# Altium schematic symbol library C70005.SCHLIB: 16 symbols
Pins are listed as number, name and electrical type; pins without a type are passive.

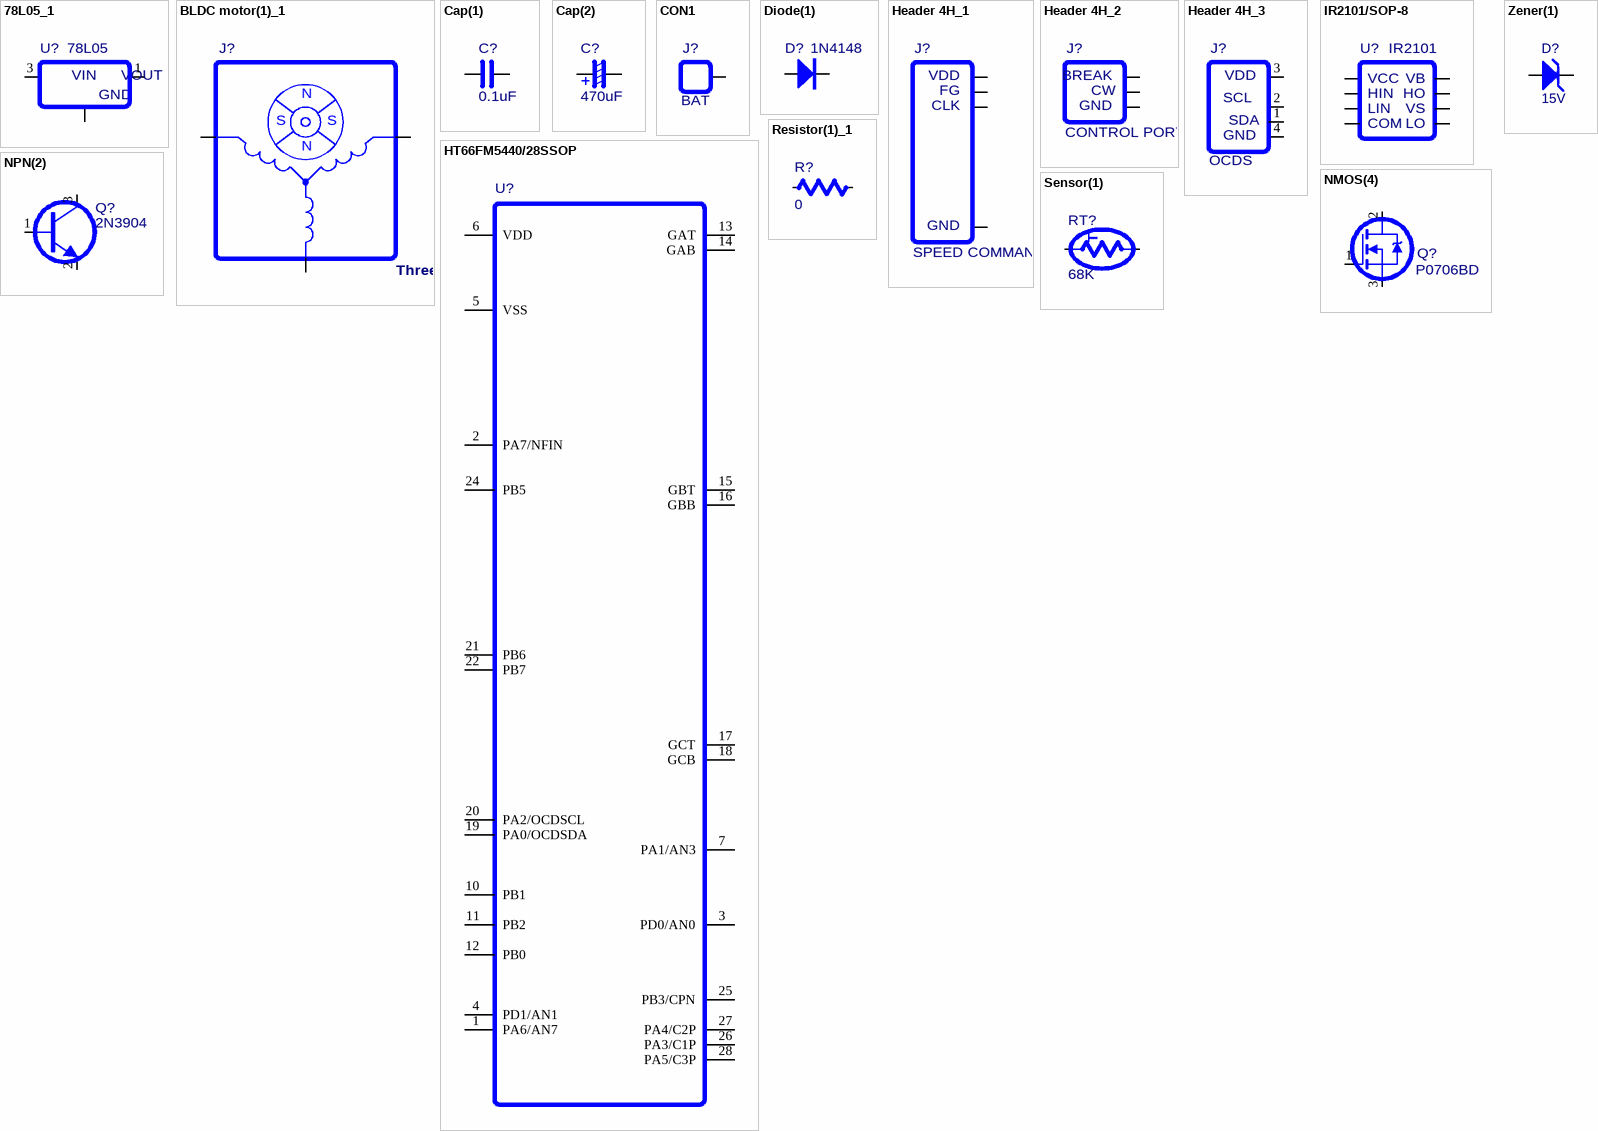
[diagram p0: symbols 78L05_1 to Zener(1)]

## 78L05_1
designator U?, comment 78L05
footprint SOT-89 (Footprint not found)
pins: 1 Vout, 2 GND, 3 Vin
text: VIN; VOUT

## BLDC motor(1)_1
designator J?, comment BLDC motor(1)  (value not drawn)
pins: 1, 2, 3
text: N; S; Three-phase   BLDC motor

## Cap(1)
designator C?, comment 0.1uF
Capacitor; Published: 8-Jun-2000; LatestRevisionDate: 17-Jul-2002; LatestRevisionNote: Re-released for DXP Platform.; PackageReference: RAD-0.3; Publisher: Altium Limited; Value: 0.1uF; Size: Small; Update: 2016/12/29
pins: 1, 2

## Cap(2)
designator C?, comment 470uF
Capacitor; Value: 470uF; Update: 2016/12/29; Size: Small
footprint ECAP 35V47UF
pins: 1, 2

## CON1
designator J?, comment BAT
CON1; LatestRevisionDate: 17-Jul-2002; LatestRevisionNote: Re-released for DXP Platform.; Publisher: Altium Limited
footprint HDR1X4H (Connector; Header; 4 Position; Right Angle)
signal-integrity model Connector
pins: 1

## Diode(1)
designator D?, comment 1N4148
Diode; Published: 8-Jun-2000; LatestRevisionDate: 17-Jul-2002; LatestRevisionNote: Re-released for DXP Platform.; PackageVersion: Sep-1996; PackageReference: SMC; Publisher: Altium Limited; PackageDescription: DO-214-AB/SMC; 2 C-Bend Leads; Body 7.9 x 5.9 mm, inc. leads (LxW); Code_JEDEC: DO-214-AB; Value: 1N4148; Update: 2016/12/29; Size: Small
footprint SMC (DO-214-AB/SMC; 2 C-Bend Leads; Body 7.9 x 5.9 mm, inc. leads (LxW))
simulation model DIODE (Diode)
signal-integrity model Diode
pins: 1 A, 2 K

## Header 4H_1
designator J?, comment SPEED COMMAND
Header, 4-Pin, Right Angle; LatestRevisionDate: 17-Jul-2002; LatestRevisionNote: Re-released for DXP Platform.; Publisher: Altium Limited
footprint HDR1X4H (Connector; Header; 4 Position; Right Angle)
signal-integrity model Connector
pins: 1, 2 CLK/VSP, 3 FG, 4 GND
text: VDD; CLK

## Header 4H_2
designator J?, comment CONTROL PORT
Header, 4-Pin, Right Angle; LatestRevisionDate: 17-Jul-2002; LatestRevisionNote: Re-released for DXP Platform.; Publisher: Altium Limited
footprint HDR1X4H (Connector; Header; 4 Position; Right Angle)
signal-integrity model Connector
pins: 1, 3 FG, 4 GND
text: BREAK; CW

## Header 4H_3
designator J?, comment OCDS
Header, 4-Pin, Right Angle; LatestRevisionDate: 17-Jul-2002; LatestRevisionNote: Re-released for DXP Platform.; Publisher: Altium Limited
footprint SIP4 (Footprint not found)
pins: 1 FG, 2 SCL, 3 1, 4 GND
text: VDD; SDA

## HT66FM5440/28SSOP
designator U?  (value not drawn)
footprint SSOP28 (Footprint not found)
pins: 1 PA6/AN7, 2 PA7/NFIN, 3 PD0/AN0, 4 PD1/AN1, 5 VSS, 6 VDD, 7 PA1/AN3, 10 PB1, 11 PB2, 12 PB0, 13 GAT, 14 GAB, 15 GBT, 16 GBB, 17 GCT, 18 GCB, 19 PA0/OCDSDA, 20 PA2/OCDSCL, 21 PB6, 22 PB7, 24 PB5, 25 PB3/CPN, 26 PA3/C1P, 27 PA4/C2P, 28 PA5/C3P

## IR2101/SOP-8
designator U?, comment IR2101
footprint SOP-8
footprint SOP-8
pins: 1 VCC, 2 HIN, 3 LIN, 4 COM, 5 LO, 6 VS, 7 HO, 8 VB

## NMOS(4)
designator Q?, comment P0706BD
N-Channel Power MOSFET; Note: Pin 2 is electrically connected to pin 4.; Published: 8-Jun-2000; LatestRevisionDate: 17-Jul-2002; LatestRevisionNote: Re-released for DXP Platform.; DatasheetVersion: PD-9.814; PackageVersion: Feb-1997; PackageReference: TO-220AB; Publisher: Altium Limited; PackageDescription: TO, Thru-Hole, Vertical, Heatsink Mounted; 3 In-Line Leads; Pitch 2.54 mm; ComponentLink1Description: Manufacturer Link; ComponentLink1URL: http://www.irf.com/
footprint TO252 (Footprint not found)
pins: 1 G, 2 D, 3 60

## NPN(2)
designator Q?, comment 2N3904
NPN Bipolar Transistor; Published: 8-Jun-2000; LatestRevisionDate: 17-Jul-2002; LatestRevisionNote: Re-released for DXP Platform.; PackageReference: TO-226-AA; Publisher: Altium Limited; PackageDescription: TO, Flat Index; 3 In-Line, Axial Leads; Body Dia. 4.8mm; Leads 0.55 x 0.51 mm (max); Code_JEDEC: TO-226-AA
footprint SOT-23
pins: 1 B, 2 E, 3 C

## Resistor(1)_1
designator R?, comment 0
Resisitor; Value: 0; Size: Midium; Update: 2016/12/29
pins: 1, 2

## Sensor(1)
designator RT?, comment 68K
pins: 1, 2
text: T

## Zener(1)
designator D?, comment 15V
Zener Diode; Value: 15V; Update: *; Size: Small
footprint SOT-23
pins: 1 A, 2 K
2 alternate drawings of the same symbol